# Altium footprint library HR911105A.PcbLib: 1 footprints
Each footprint in its own frame and in the unit in brackets; x right, y up, seen from the top. Pads: shape width x height; smd on the part's side, far side on the other; paste and mask are expansions set on the pad; w line width, h text height; cw(c..) or ccw(c..) is an arc to the next point about the centre after c.
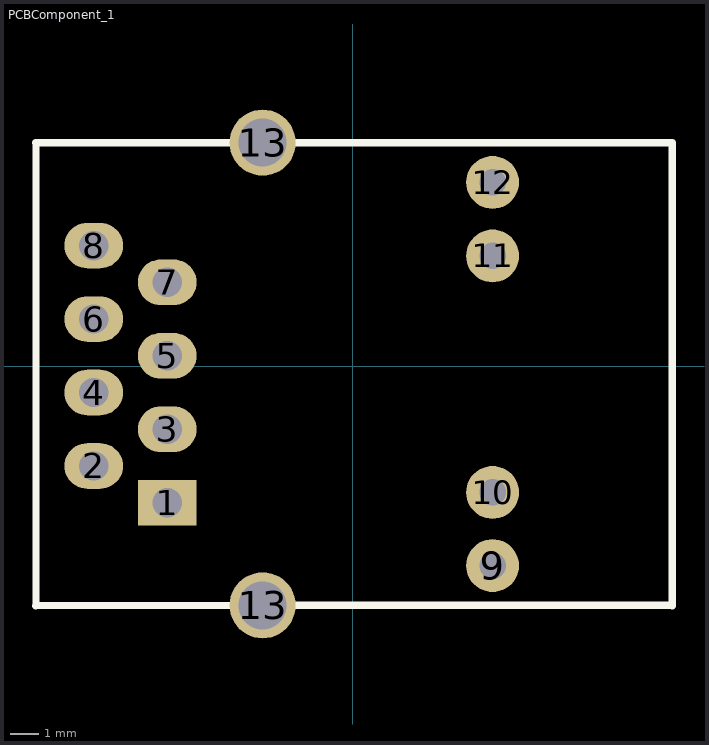
[diagram p0: the footprint, top view; thin cyan lines are the x and y axes]

## PCBComponent_1 [mil]
pads (14):
  rect 80x62 hole 40: 1(-252.91,-186)
  oval 80x62 hole 40: 2(-352.91,-136) 3(-252.91,-86) 4(-352.91,-36) 5(-252.91,14) 6(-352.91,64) 7(-252.91,114) 8(-352.91,164)
  round 72 hole 36: 9(190,-271.63) 10(190,-172) 11(190,149.87) 12(190,250)
  round 90 hole 65: 13(-122.99,-325.76) 13(-122.99,304.16)
Top Overlay:
  lines w10: -431.65,-326 -431.57,-325.92 -123.15,-325.92 ; -431.65,304 -431.5,304.16 ; -431.42,-325.76 -431.5,-325.69 -431.5,304.16 ; -122.99,-325.76 434.25,-325.76 434.49,-326 434.49,304 -122.83,304 ; -122.99,304.16 -431.5,304.16 ; -114.24,-318.92 -114.08,-318.76 ; -114.08,311.16 -113.92,311
Multi-Layer:
  circle w5: c7.09,-236 r70.8
  circle w5: c7.09,214 r70.8